# Altium footprint library CN_DB25_MALE_RA.PcbLib: 1 footprints
Each footprint in its own frame and in the unit in brackets; x right, y up, seen from the top. Pads: shape width x height; smd on the part's side, far side on the other; paste and mask are expansions set on the pad; w line width, h text height; cw(c..) or ccw(c..) is an arc to the next point about the centre after c.
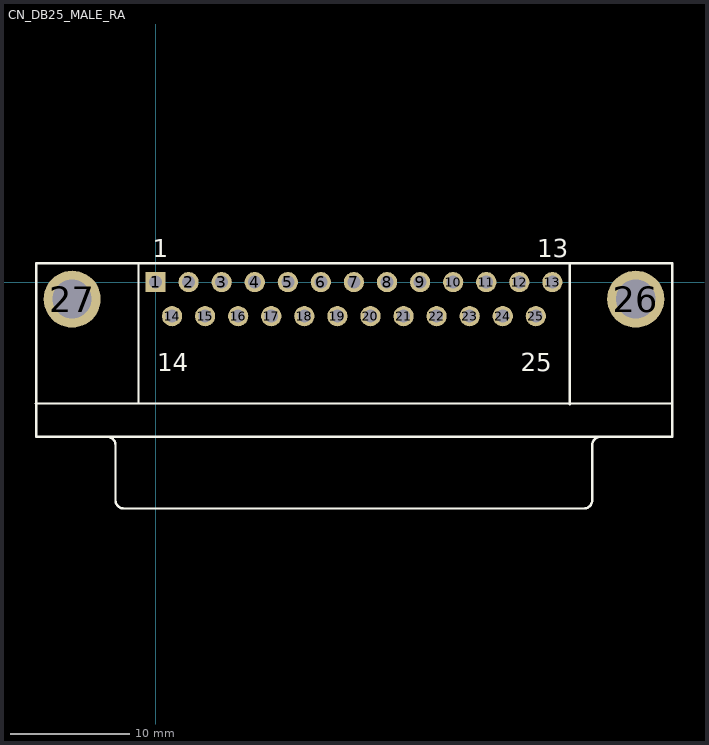
[diagram p0: the footprint, top view; thin cyan lines are the x and y axes]

## CN_DB25_MALE_RA [mm]
height 12.93
pads (27):
  rect 1.69x1.69 hole 1.09: 1(0,0)
  round 1.69 hole 1.09: 2(2.761,0) 3(5.522,0) 4(8.283,0) 5(11.044,0) 6(13.805,0) 7(16.566,0) 8(19.327,0) 9(22.088,0) 10(24.849,0) 11(27.61,0) 12(30.371,0) 13(33.132,0) 14(1.381,-2.84) 15(4.142,-2.84) 16(6.903,-2.84) 17(9.664,-2.84) 18(12.424,-2.84) 19(15.185,-2.84) 20(17.946,-2.84) 21(20.707,-2.84) 22(23.469,-2.84) 23(26.23,-2.84) 24(28.991,-2.84) 25(31.752,-2.84)
  round 4.76 hole 3.26: 26(40.092,-1.42) 27(-6.96,-1.42)
Top Overlay:
  lines w0.2: -9.991,-10.13 43.109,-10.13 ; -4.036,-12.906 cw(c-4.036,-13.601) -3.341,-13.601 -3.341,-18.201 ; -3.336,-18.206 ccw(c-2.641,-18.206) -2.641,-18.901 35.759,-18.901 ccw(c35.759,-18.206) 36.454,-18.206 ; -1.416,-10.133 -1.416,1.58 ; 34.584,-10.183 34.584,1.58 ; 36.459,-18.201 36.459,-13.601 cw(c37.154,-13.601) 37.154,-12.906 ; -9.966,-12.901 43.134,-12.901 43.134,1.58 -9.966,1.58 -9.966,-12.901
  text "1" at -0.25,2.06 h1.5
  text "13" at 31.882,2.06 h1.5
  text "14" at 0.131,-7.44 h1.5
  text "25" at 30.502,-7.44 h1.5
3D body: height 13.5, standoff -3.3, extent -10.009,-19.14 43.131,2.16